# EAGLE library part CONN_06_02 (library dawidkulpa_con)
2x6 connector
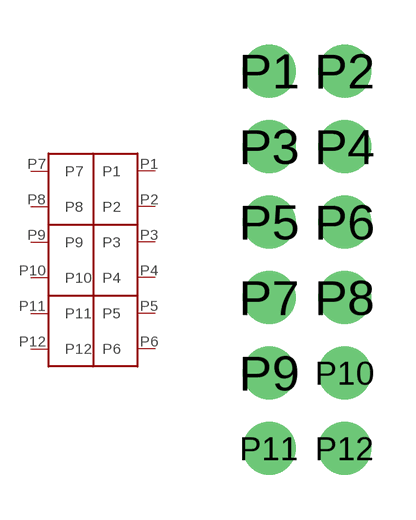
[diagram p3: symbol with the pads of GP_02_06M; footprint GP_02_06M]

Designator prefix -

## CONN_06_02  [GP_02_06M]
P1  P1
P2  P2
P3  P3
P4  P4
P5  P5
P6  P6
P7  P7
P8  P8
P9  P9
P10  P10
P11  P11
P12  P12

## Footprint GP_02_06M (pad centres in mm)
drill 1 pad 1.778: P1 -1.27,6.35; P2 1.27,6.35; P3 -1.27,3.81; P4 1.27,3.81; P5 -1.27,1.27; P6 1.27,1.27; P7 -1.27,-1.27; P8 1.27,-1.27; P9 -1.27,-3.81; P10 1.27,-3.81; P11 -1.27,-6.35; P12 1.27,-6.35